# Altium footprint library custom-case.PcbLib: 7 footprints
Each footprint in its own frame and in the unit in brackets; x right, y up, seen from the top. Pads: shape width x height; smd on the part's side, far side on the other; paste and mask are expansions set on the pad; w line width, h text height; cw(c..) or ccw(c..) is an arc to the next point about the centre after c.
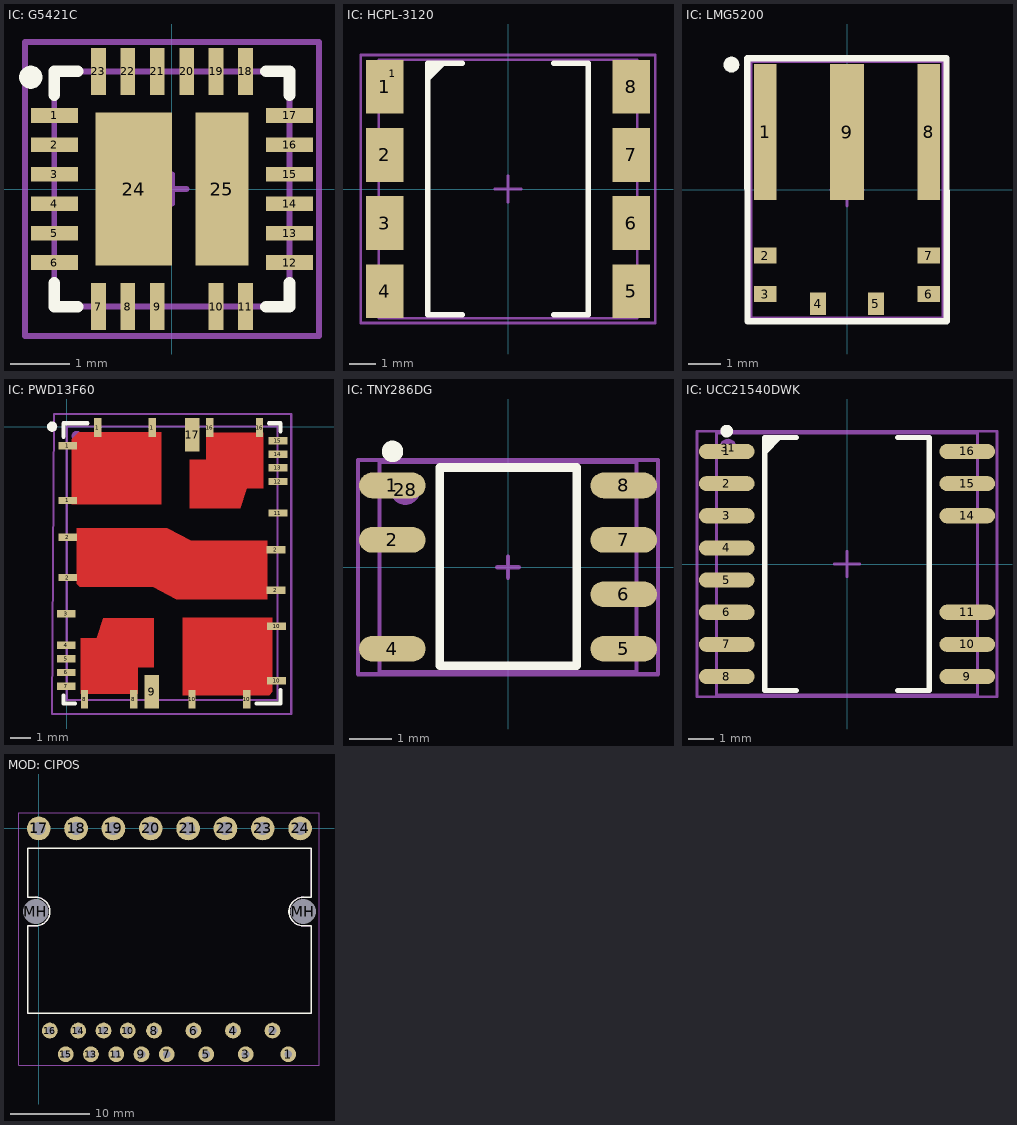
[diagram p0: the footprints below, top view; thin cyan lines are the x and y axes]

## IC: G5421C [mm]
pads (26):
  rect 0.8x0.25 smd mask+0.075: 1(-2,1.25) 2(-2,0.75) 3(-2,0.25) 4(-2,-0.25) 5(-2,-0.75) 6(-2,-1.25) 12(2,-1.25) 13(2,-0.75) 14(2,-0.25) 15(2,0.25) 16(2,0.75) 17(2,1.25)
  rect 0.25x0.8 smd mask+0.075: 7(-1.25,-2) 8(-0.75,-2) 9(-0.25,-2) 10(0.75,-2) 11(1.25,-2) 18(1.25,2) 19(0.75,2) 20(0.25,2) 21(-0.25,2) 22(-0.75,2) 23(-1.25,2)
  rect 1.3x2.6 smd mask+0.075: 24(-0.65,0)
  rect 0.9x2.6 smd mask+0.075: 25(0.85,0)
  round 0.4 on Top Overlay mask+0.075: ""(-2.4,1.9)
Top Overlay:
  lines w0.2: -2,-1.6 -2,-2 -1.6,-2 ; -2,1.6 -2,2 -1.6,2 ; 1.6,-2 2,-2 2,-1.6 ; 1.6,2 2,2 2,1.6
Top Assy:
  lines w0.1: -2,-2 -2,2 2,2 2,-2 -2,-2
Size Area:
  lines w0.1: -0.25,0 0.25,0 ; 0,-0.25 0,0.25 ; -2.5,-2.5 -2.5,2.5 2.5,2.5 2.5,-2.5 -2.5,-2.5
3D body "User Library-QFN 24 4x4-1.STEP": height 0.9, standoff 0, extent -2.004,-2.002 2,2.002

## IC: HCPL-3120 [mm]
pads (9):
  rect 1.4x2 smd: 1(-4.6,3.81) 2(-4.6,1.27) 3(-4.6,-1.27) 4(-4.6,-3.81) 5(4.6,-3.81) 6(4.6,-1.27) 7(4.6,1.27) 8(4.6,3.81)
  round 0.5 on Mech1: 1(-4.3,4.3)
Top Overlay:
  region: -3,4.7 -3,3.98 -2.28,4.7
  lines w0.2: -1.7,-4.7 -3,-4.7 -3,4.7 -1.7,4.7 ; 1.7,-4.7 3,-4.7 3,4.7 1.7,4.7
Top Assy:
  lines w0.1: -4.83,-4.83 4.83,-4.83 4.83,4.83 -4.83,4.83 -4.83,-4.83
Size Area:
  lines w0.1: -0.5,0 0.5,0 ; 0,-0.5 0,0.5 ; -5.5,-5 5.5,-5 5.5,5 -5.5,5 -5.5,-5
3D body "User Library-HCPL-3120-300.STEP": height 4.79, standoff 0, extent -4.83,-4.83 4.83,4.83

## IC: LMG5200 [mm]
pads (26):
  rect 0.7x4.25 smd paste-10: 1(-2.55,1.8) 8(2.55,1.8)
  rect 0.7x0.5 smd: 2(-2.55,-2.05) 3(-2.55,-3.25) 6(2.55,-3.25) 7(2.55,-2.05)
  rect 0.5x0.7 smd: 4(-0.9,-3.55) 5(0.9,-3.55)
  rect 1.05x4.25 smd paste-10: 9(0,1.8)
  round 0.5 on Top Overlay: ""(-3.6,3.9)
  rect 0.6x0.6 on Top Paste: ""(-2.55,0.1) ""(-2.55,0.95) ""(-2.55,1.8) ""(-2.55,2.65) ""(-2.55,3.5) ""(2.55,0.1) ""(2.55,0.95) ""(2.55,1.8) ""(2.55,2.65) ""(2.55,3.5)
  round 0.5 on Mech1: ""(-2.55,3.5)
  rect 0.9x0.6 on Top Paste: ""(0,0.1) ""(0,0.95) ""(0,1.8) ""(0,2.65) ""(0,3.5)
Top Overlay:
  lines w0.2: -3.103,4.1 -3.1,-4.1 ; -3.1,-4.102 3.1,-4.1 ; -3.1,4.1 3.1,4.102 ; 3.1,4.1 3.103,-4.1
Top Assy:
  lines w0.1: -3,-4 3,-4 3,4 -3,4 -3,-4
Size Area:
  lines w0.1: -0.5,0 0.5,0 ; 0,-0.5 0,0.5
3D body "LMG5200.STEP": height 2.05, standoff 0, extent -3,-4 3,4

## IC: PWD13F60 [mm]
pads (30):
  rect 0.9x0.35 smd mask+0.05: 1(0.05,-3.52) 1(0.05,-0.92) 2(0.05,-7.195) 2(0.05,-5.27) 2(9.975,-7.795) 2(9.975,-5.87) 3(-0.025,-8.92) 4(-0.025,-10.42) 5(-0.025,-11.07) 6(-0.025,-11.72) 7(-0.025,-12.37) 10(10,-12.12) 10(10,-9.52) 11(10.065,-4.12) 12(10.065,-2.62) 13(10.065,-1.97) 14(10.065,-1.32) 15(10.065,-0.67)
  rect 0.35x0.9 smd mask+0.05: 1(1.475,-0.045) 1(4.075,-0.045) 8(0.85,-12.995) 8(3.2,-12.995) 10(5.975,-12.995) 10(8.575,-12.995) 16(6.825,-0.045) 16(9.19,-0.045)
  rect 0.7x1.6 smd mask+0.05: 9(4.05,-12.645) 17(5.99,-0.393)
  round 0.5 on Top Overlay: ""(-0.7,0)
  round 0.5 on Mech1: ""(0.475,-0.45)
Top Layer:
  region: 9.55,-8.22 9.55,-5.445 5.925,-5.445 4.8,-4.845 0.475,-4.845 0.475,-7.495 0.625,-7.645 4.1,-7.645 5.225,-8.22
  region: 0.25,-3.695 0.25,-0.595 0.575,-0.27 4.5,-0.27 4.5,-3.695
  region: 5.875,-3.895 5.875,-1.57 6.65,-1.57 6.65,-0.295 9.365,-0.295 9.365,-2.945 8.584,-2.945 8.282,-3.895
  region: 9.8,-9.12 9.8,-12.645 9.65,-12.795 5.525,-12.795 5.525,-9.12
  region: 4.15,-9.145 4.15,-11.47 3.375,-11.47 3.375,-12.745 0.675,-12.745 0.675,-10.095 1.441,-10.095 1.743,-9.145
Top Overlay:
  lines w0.2: -0.155,-12.82 -0.155,-13.195 0.395,-13.195 ; -0.155,-0.485 -0.155,0.155 0.995,0.155 ; 9.045,-13.195 10.195,-13.195 10.195,-12.555 ; 9.64,0.155 10.19,0.155 10.19,-0.22
Top Solder:
  region: 0.425,-4.8 0.425,-7.525 0.6,-7.7 4.1,-7.7 5.2,-8.275 8.5,-8.3 9.6,-8.3 9.6,-5.4 5.925,-5.4 4.793,-4.8
  region: 8.325,-3.95 8.638,-2.976 8.325,-2.991
  region: 9.415,-2.99 8.325,-2.99 8.325,-3.95 5.825,-3.95 5.825,-1.515 6.615,-1.515 6.615,-0.24 9.415,-0.24
  region: 1.7,-9.1 1.4,-10.05 1.7,-10.05
  region: 0.625,-10.05 1.7,-10.05 1.7,-9.1 4.2,-9.1 4.2,-11.525 3.425,-11.525 3.425,-12.8 0.625,-12.8
  region: 0.2,-0.575 0.55,-0.225 4.55,-0.225 4.55,-3.75 0.2,-3.75
  region: 9.85,-12.675 9.675,-12.85 5.475,-12.85 5.475,-9.075 9.85,-9.075
Top Assy:
  lines w0.1: 0,-13.04 10.04,-13.04 10.04,0 0,0 0,-13.04
Size Area:
  lines w0.1: -0.7,-13.7 10.7,-13.7 10.7,0.6 -0.6,0.6 -0.7,-13.7
3D body "10-PowerVFQFN.STEP": height 0.9, standoff -0.02, extent 0,-13.04 10.04,0

## IC: TNY286DG [mm]
pads (8):
  rrect100% 1.55x0.6 smd: 1(-2.7,1.905) 2(-2.7,0.635) 4(-2.7,-1.905) 5(2.7,-1.905) 6(2.7,-0.635) 7(2.7,0.635) 8(2.7,1.905)
  round 0.7 on Mech1: 28(-2.395,1.8)
Top Overlay:
  circle w0.25: c-2.695,2.7 r0.125
  lines w0.2: -1.595,-2.3 1.605,-2.3 1.605,2.325 -1.595,2.325 -1.595,-2.3
Top Assy:
  lines w0.1: -3,-2.45 -3,2.45 3,2.45 3,-2.45 -3,-2.45
Size Area:
  lines w0.1: -0.25,0 0.25,0 ; 0,-0.25 0,0.25 ; -3.5,-2.5 -3.5,2.5 3.5,2.5 3.5,-2.5 -3.5,-2.5
3D body "User Library-SOIC-7.STEP": height 1.75, standoff 0, extent -3,-2.45 3,2.45

## IC: UCC21540DWK [mm] "pitch 1.27 mm"
height 2.65
pads (15):
  oval 2.2x0.6 smd: 1(-4.75,4.445) 2(-4.75,3.175) 3(-4.75,1.905) 4(-4.75,0.635) 5(-4.75,-0.635) 6(-4.75,-1.905) 7(-4.75,-3.175) 8(-4.75,-4.445) 9(4.75,-4.445) 10(4.75,-3.175) 11(4.75,-1.905) 14(4.75,1.905) 15(4.75,3.175) 16(4.75,4.445)
  round 0.7 on Mech1: 31(-4.7,4.6)
Top Overlay:
  circle w0.25: c-4.75,5.25 r0.125
  region: -3.25,5 -3.25,4.28 -2.53,5
  lines w0.2: -2,-5 -3.25,-5 -3.25,5 -2,5 ; 2,-5 3.25,-5 3.25,5 2,5
Top Assy:
  lines w0.1: -5.155,-5.165 5.155,-5.165 5.155,5.165 -5.155,5.165 -5.155,-5.165
Size Area:
  lines w0.1: -0.5,0 0.5,0 ; 0,-0.5 0,0.5 ; -5.925,-5.25 -5.925,5.25 5.925,5.25 5.925,-5.25 -5.925,-5.25
3D body "SO-14.STEP": height 2.48, standoff 0, extent -5.155,-5.165 5.155,5.165

## MOD: CIPOS [mm]
pads (26):
  round 2 hole 1 mask+0.075: 1(31.61,-28.6) 2(29.61,-25.6) 3(26.21,-28.6) 4(24.61,-25.6) 5(21.21,-28.6) 6(19.61,-25.6) 7(16.21,-28.6) 8(14.61,-25.6) 9(13.01,-28.6) 10(11.27,-25.6) 11(9.81,-28.6) 12(8.21,-25.6) 13(6.61,-28.6) 14(5.01,-25.6) 15(3.41,-28.6) 16(1.41,-25.6)
  round 3 hole 1.7 mask+0.075: 17(0,0) 18(4.73,0) 19(9.46,0) 20(14.19,0) 21(18.92,0) 22(23.65,0) 23(28.38,0) 24(33.11,0)
  round 3 hole 3.2 mask+0.075: MH(-0.39,-10.525) MH(33.5,-10.525)
Top Overlay:
  lines w0.2: -1.39,-23.4 -1.39,-12.325 -0.39,-12.325 ccw(c-0.39,-10.525) -0.39,-8.725 -1.39,-8.725 -1.39,-2.5 34.5,-2.5 34.5,-8.725 33.5,-8.725 ccw(c33.5,-10.525) 33.5,-12.325 34.5,-12.325 34.51,-23.4 -1.39,-23.4
Top Assy:
  lines w0.1: -1.39,-23.4 34.51,-23.4 34.5,-12.325 33.5,-12.325 cw(c33.5,-10.525) 33.5,-8.725 34.5,-8.725 34.5,-2.5 -1.39,-2.5 -1.39,-8.725 -0.39,-8.725 cw(c-0.39,-10.525) -0.39,-12.325 -1.39,-12.325 -1.39,-23.4
Size Area:
  lines w0.1: -2.5,-30 -2.5,2 35.5,2 35.5,-30 -2.5,-30
3D body "CIPOS.STEP": height 3.9, standoff -3.8, extent -1.59,-29.258 34.71,0.575